# Altium footprint library LM2596SX-12NOPB.PcbLib: 1 footprints
Each footprint in its own frame and in the unit in brackets; x right, y up, seen from the top. Pads: shape width x height; smd on the part's side, far side on the other; paste and mask are expansions set on the pad; w line width, h text height; cw(c..) or ccw(c..) is an arc to the next point about the centre after c.
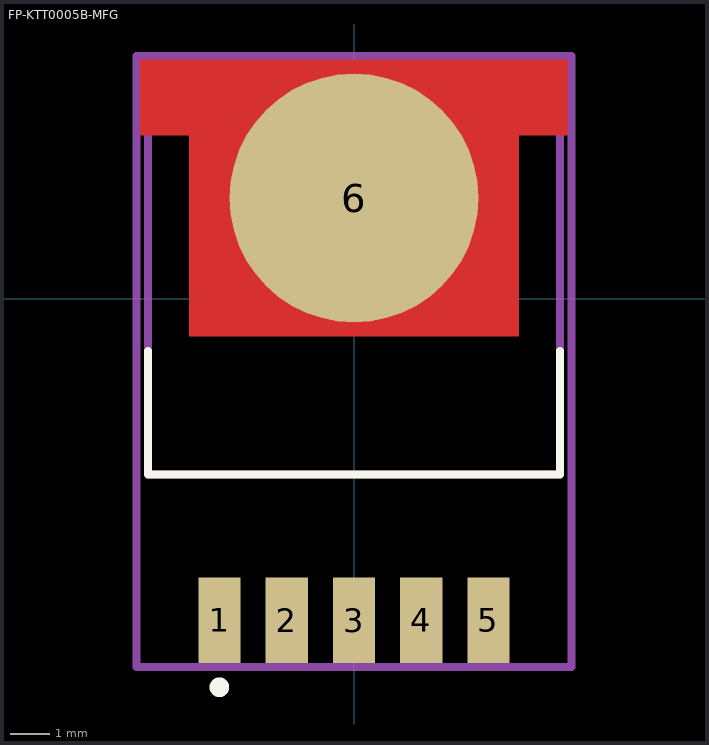
[diagram p0: the footprint, top view; thin cyan lines are the x and y axes]

## FP-KTT0005B-MFG [mm]
pads (6):
  rect 1.07x2.16 smd paste+0 mask+0: 1(-3.4,-8.13) 2(-1.7,-8.13) 3(0,-8.13) 4(1.7,-8.13) 5(3.4,-8.13)
  round 6.291 smd paste+0 mask+0: 6(0,2.545)
Top Layer:
  region: -5.4,6.04 5.4,6.04 5.4,4.13 4.165,4.13 4.165,-0.95 -4.165,-0.95 -4.165,4.13 -5.4,4.13
Top Overlay:
  circle w0.25: c-3.405,-9.825 r0.125
  lines w0.2: -5.205,-1.325 -5.205,-4.445 5.205,-4.445 5.205,-1.325
Top Assembly:
  lines w0.2: -5.5,-9.31 -5.5,6.14 5.5,6.14 5.5,-9.31 -5.5,-9.31
  text ".Designator" at 0,-1.585 h1
Top 3D Body:
  lines w0.2: -5.205,-4.445 -5.205,4.445 5.205,4.445 5.205,-4.445 -5.205,-4.445
Top Courtyard:
  lines w0.2: -5.5,-9.31 -5.5,6.14 5.5,6.14 5.5,-9.31 -5.5,-9.31
Top Component Center:
  lines w0.1: -0.5,0 0.5,0 ; 0,-0.5 0,0.5
3D body "IC_Texas_Instruments_LM2596SX-12-NOPB_eec.STEP": height 0.25, standoff 0, extent -5.5,-9.31 5.5,6.14